# Altium footprint library ATK-2014-09-12.PcbLib: 436 footprints (part 4 of 28)
Each footprint in its own frame and in the unit in brackets; x right, y up, seen from the top. Pads: shape width x height; smd on the part's side, far side on the other; paste and mask are expansions set on the pad; w line width, h text height; cw(c..) or ccw(c..) is an arc to the next point about the centre after c.
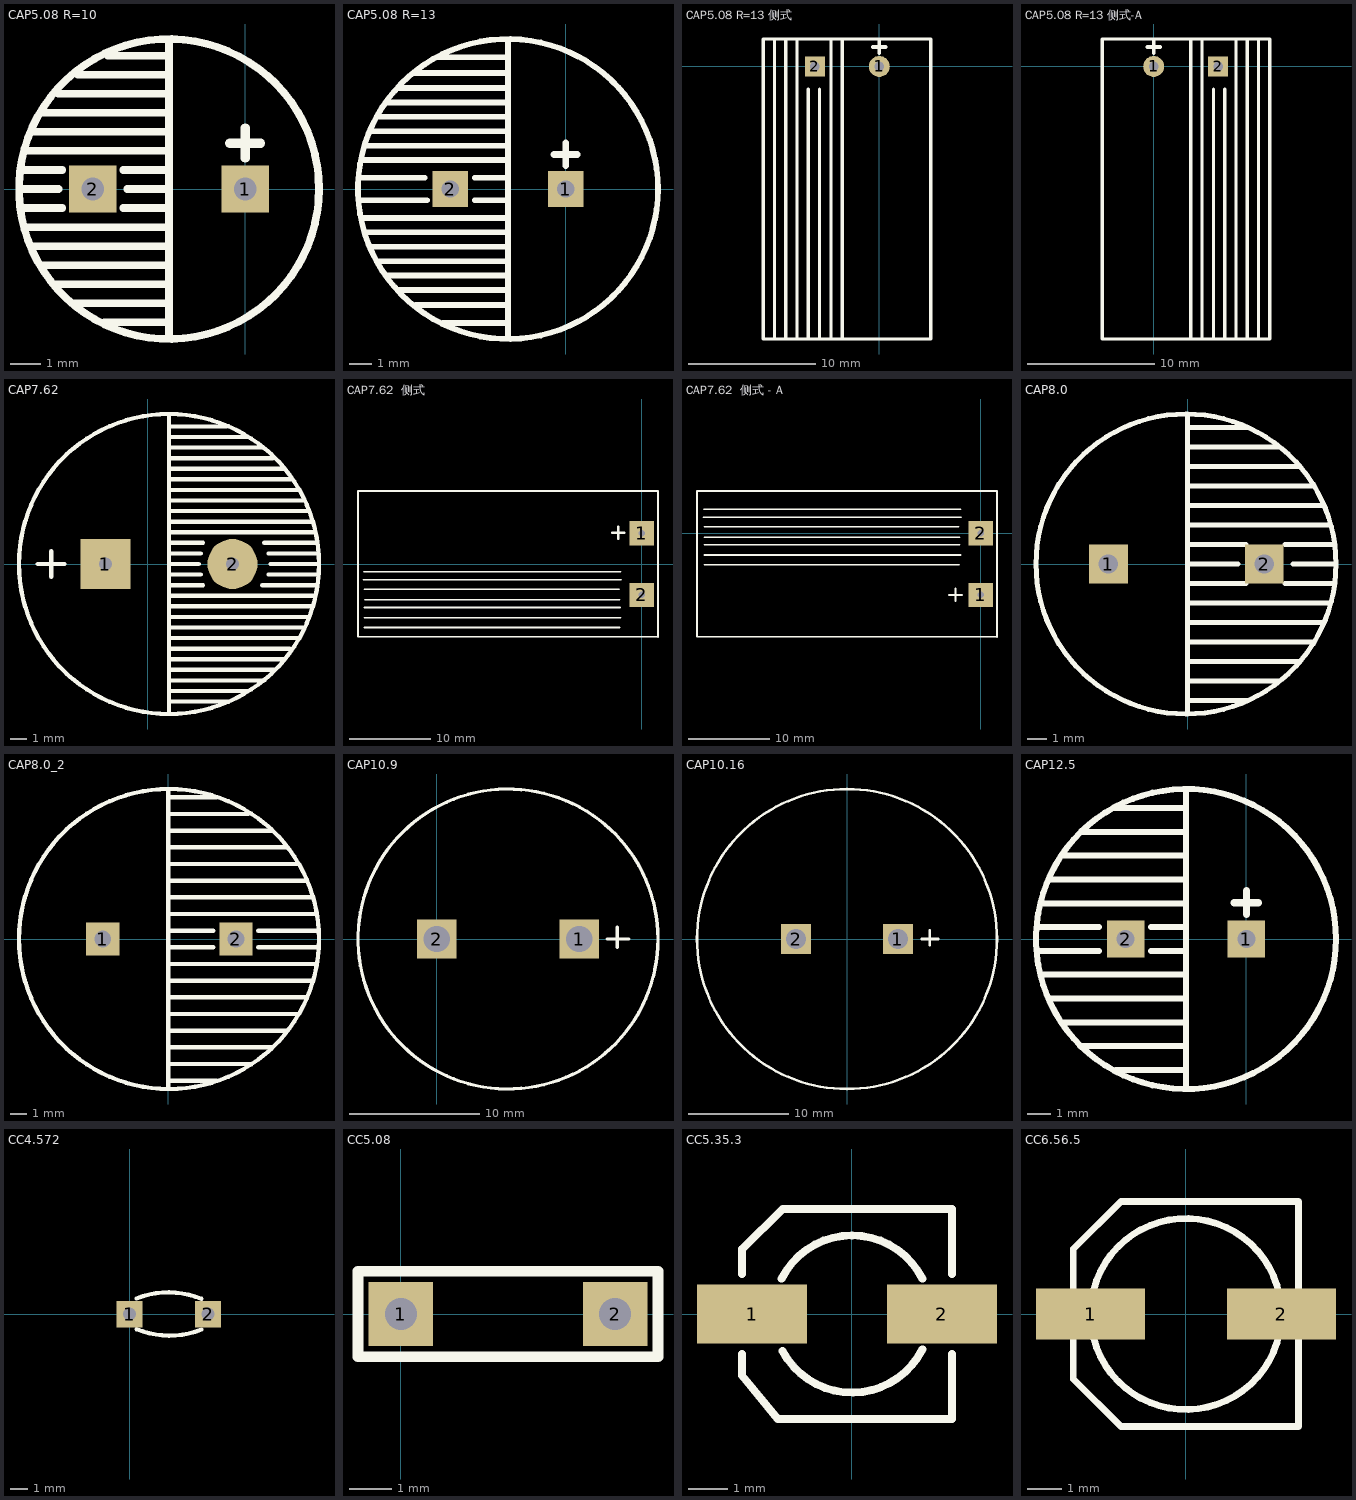
[diagram p3: the footprints below, top view; thin cyan lines are the x and y axes]

## CAP5.08 R=10 [mil] "RB 5.08/10"
height 393.7
pads (2):
  rect 62x62 hole 30: 1(0,0) 2(-200,0)
Top Overlay:
  circle w10: c-100,0 r196.85
  lines w10: -295,-25 -240,-25 ; -295,0 -245,0 ; -295,25 -240,25 ; -290,-50 -100,-50 ; -285,50 -100,50 ; -280,-75 -100,-75 ; -280,75 -100,75 ; -265,-100 -100,-100 ; -265,100 -100,100 ; -250,-125 -100,-125 ; -245,125 -100,125 ; -225,-150 -100,-150 ; -220,150 -100,150 ; -185,-175 -100,-175 ; -180,175 -100,175 ; -160,-25 -100,-25 ; -160,25 -100,25 ; -155,0 -100,0 ; -100,-195 -100,195
  lines w12: -20.32,60 20,60 ; 0,40.63 0,80

## CAP5.08 R=13 [mil] "RB 5.08/13"
height 393.7
pads (2):
  rect 62x62 hole 30: 1(0,0) 2(-200,0)
Top Overlay:
  circle w10: c-100,0 r259.84
  lines w10: -358.27,-19.68 -295.16,-19.68 -240.16,-19.68 ; -358.27,19.68 -244.09,19.68 ; -354.33,50 -100,50 ; -353.15,-50 -290,-50 -100,-50 ; -346.46,-75 -100,-75 ; -346.46,75 -100,75 ; -338.58,100 -100,100 ; -334.65,-100 -100,-100 ; -326.77,-125 -100,-125 ; -326.77,125 -100,125 ; -311.02,-150 -100,-150 ; -311.02,150 -100,150 ; -291.34,-175 -100,-175 ; -287.4,175 -100,175 ; -263.78,200.79 -100,200.79 ; -259.84,-200.79 -100,-200.79 ; -220.47,228.35 -100,228.35 ; -212.6,-232.28 -100,-232.28 ; -157.48,-19.68 -100,-19.68 ; -157.48,19.68 -100,19.68 ; -100,-255.91 -100,255.91
  lines w12: -20.32,60 20,60 ; 0,40.63 0,80

## CAP5.08 R=13 侧式 [mil] "RB 5.08  13x20"
pads (2):
  round 65 hole 30: 1(0,0)
  rect 62x62 hole 30: 2(-200,0)
Top Overlay:
  lines w10: -325,-845 -325,85 ; -290,-845 -290,85 ; -255,-845 -255,85 ; -220,-845 -220,-70 ; -185,-845 -185,-70 ; -150,-845 -150,85 ; -115,-845 -115,85 ; -115,85 159.84,85 159.84,-845 -360,-845 -360,85 -115,85
  lines w12: -20.32,60 20,60 ; 0,40.63 0,80

## CAP5.08 R=13 侧式-A [mil] "RB 5.08  13x20"
pads (2):
  round 65 hole 30: 1(0,0)
  rect 62x62 hole 30: 2(200,0)
Top Overlay:
  lines w10: 115,-845 115,85 ; 150,-845 150,85 ; 185,-845 185,-70 ; 220,-845 220,-70 ; 255,-845 255,85 ; 290,-845 290,85 ; 325,-845 325,85 ; 115,85 360,85 360,-845 -159.84,-845 -159.84,85 115,85
  lines w12: -20,60 20.32,60 ; 0,40.63 0,80

## CAP7.62 [mm] "35V 4700uF"
height 32
pads (2):
  rect 3x3 hole 0.8: 1(-2.54,0)
  round 3 hole 0.8: 2(5.08,0)
Top Overlay:
  circle w0.254: c1.27,0 r9
  lines w0.254: -6.604,0 -5.004,0 ; -5.791,-0.762 -5.791,0.762 ; 1.27,-8.89 1.27,8.992 ; 1.27,-8.255 4.826,-8.255 ; 1.27,-7.62 5.969,-7.62 ; 1.27,-6.985 6.985,-6.985 ; 1.27,-6.35 7.62,-6.35 ; 1.27,-5.715 8.128,-5.715 ; 1.27,-5.08 8.509,-5.08 ; 1.27,-4.445 9.017,-4.445 ; 1.27,-3.81 9.398,-3.81 ; 1.27,-3.175 9.652,-3.175 ; 1.27,-2.54 9.906,-2.54 ; 1.27,-1.905 10.033,-1.905 ; 1.27,-1.27 3.302,-1.27 ; 1.27,-0.635 3.175,-0.635 ; 1.27,0 3.048,0 ; 1.27,0.635 3.175,0.635 ; 1.27,1.27 3.302,1.27 ; 1.27,1.905 10.033,1.905 ; 1.27,2.54 9.906,2.54 ; 1.27,3.175 9.652,3.175 ; 1.27,3.81 9.398,3.81 ; 1.27,4.445 9.017,4.445 ; 1.27,5.08 8.636,5.08 ; 1.27,5.715 8.128,5.715 ; 1.27,6.35 7.493,6.35 ; 1.27,6.985 6.858,6.985 ; 1.27,7.62 5.969,7.62 ; 1.27,8.255 4.699,8.255 ; 6.858,-1.27 10.16,-1.27 ; 6.985,1.27 10.16,1.27 ; 7.239,-0.635 10.16,-0.635 ; 7.239,0.635 10.16,0.635 ; 7.366,0 10.27,0

## CAP7.62  侧式 [mm] "50V 4700uF"
height 15
pads (2):
  rect 3x3 hole 0.8: 1(0,3.81) 2(0,-3.81)
Top Overlay:
  lines w0.2: -35.001,-8.941 -35.001,8.992 ; -35,-8.966 2.007,-8.966 ; -35,9.017 2.007,9.017 ; -34.341,-1.956 -2.515,-1.956 ; -34.265,-0.94 -2.591,-0.94 ; -34.214,-7.823 -2.743,-7.823 ; -34.214,-6.604 -2.565,-6.604 ; -34.214,-5.359 -2.667,-5.359 ; -34.214,-3.099 -2.794,-3.099 ; -34.188,-4.394 -2.692,-4.394
  lines w0.254: -3.683,3.861 -2.108,3.861 ; -2.896,3.124 -2.896,4.648 ; 2,-9 2,9

## CAP7.62  侧式 - A [mm] "50V 4700uF"
height 15
pads (2):
  rect 3x3 hole 0.8: 1(0,-7.62) 2(0,0)
Top Overlay:
  lines w0.2: -35.001,-12.751 -35.001,5.182 ; -35,-12.776 2.007,-12.776 ; -35,5.207 2.007,5.207 ; -34.239,1.956 -2.413,1.956 ; -34.163,2.972 -2.489,2.972 ; -34.112,-3.912 -2.642,-3.912 ; -34.112,-2.692 -2.464,-2.692 ; -34.112,-1.448 -2.565,-1.448 ; -34.112,0.813 -2.692,0.813 ; -34.087,-0.483 -2.591,-0.483
  lines w0.254: -3.886,-7.645 -2.311,-7.645 ; -3.099,-8.382 -3.099,-6.858 ; 2,-12.81 2,5.19

## CAP8.0 [mm] "25V/4700uF"
height 27
pads (2):
  rect 2x2 hole 1: 1(-4.064,0) 2(3.937,0)
Top Overlay:
  circle w0.254: c-0.08,0 r7.7
  lines w0.254: 0,-7.7 0,7.7 ; 0,-7 3.1,-7 ; 0,-6 4.7,-6 ; 0,-5 5.7,-5 ; 0,-4 6.5,-4 ; 0,-3 6.9,-3 ; 0,-2 7.3,-2 ; 0,-1 3,-1 ; 0,0 2.6,0 ; 0,1 3,1 ; 0,2 7.2,2 ; 0,3 6.9,3 ; 0,4 6.5,4 ; 0,5 5.7,5 ; 0,6 4.7,6 ; 0,7 3.1,7 ; 5,-1 7.5,-1 ; 5,1 7.5,1 ; 5.4,0 7.62,0

## CAP8.0_2 [mm] "50V/4700uF"
height 30
pads (2):
  rect 2x2 hole 1: 1(-3.937,0) 2(4.064,0)
Top Overlay:
  circle w0.254: c0.047,0 r9
  lines w0.254: 0,-8.818 0,8.9 ; 0,-8.5 2.9,-8.5 ; 0,-6.5 6.2,-6.5 ; 0,-5.5 7.1,-5.5 ; 0,-4.5 7.8,-4.5 ; 0,-3.5 8.3,-3.5 ; 0,-2.5 8.6,-2.5 ; 0,-1.5 8.9,-1.5 ; 0,-0.5 2.7,-0.5 ; 0,0.5 2.7,0.5 ; 0,1.5 8.9,1.5 ; 0,2.5 8.6,2.5 ; 0,3.5 8.2,3.5 ; 0,4.5 7.7,4.5 ; 0,5.5 7.1,5.5 ; 0,6.5 6.2,6.5 ; 0,7.5 4.8,7.5 ; 0,8.5 2.9,8.5 ; 0.1,-7.5 5,-7.5 ; 5.4,-0.5 9,-0.5 ; 5.4,0.5 9,0.5

## CAP10.9 [mm] "50V 2200uF"
height 26
pads (2):
  rect 3x3 hole 2: 1(10.922,0) 2(0,0)
Top Overlay:
  circle w0.254: c5.461,0 r11.5
  lines w0.254: 13.081,0 14.732,0 ; 13.843,-0.635 13.843,0.889

## CAP10.16 [mm] "50V10000uF"
height 50
pads (2):
  rect 3x3 hole 2: 1(5.08,0) 2(-5.08,0)
Top Overlay:
  circle w0.254: c0,0 r15
  lines w0.254: 7.493,0 9.144,0 ; 8.255,-0.635 8.255,0.889

## CAP12.5 [mil] "12.5mm*20mm,pin:5.08mm"
height 787.4
pads (2):
  rect 62x62 hole 30: 1(0,0) 2(-200,0)
Top Overlay:
  circle w10: c-100,0 r248.03
  lines w10: -346.46,-19.68 -244.09,-19.68 ; -346.46,19.68 -244.09,19.68 ; -338.58,-59.06 -100,-59.06 ; -334.65,59.06 -100,59.06 ; -326.77,98.43 -100,98.43 ; -322.83,-98.43 -100,-98.43 ; -303.15,-137.8 -100,-137.8 ; -303.15,137.8 -100,137.8 ; -275.59,-177.17 -100,-177.17 ; -271.65,177.17 -100,177.17 ; -220.47,216.54 -100,216.54 ; -216.54,-216.54 -100,-216.54 ; -157.48,-19.68 -100,-19.68 ; -157.48,19.68 -100,19.68 ; -100,-248.03 -100,244.09
  lines w12: -20.32,60 20,60 ; 0,40.63 0,80

## CC4.572 [mil] "222/332"
height 393.7
pads (2):
  rect 60x60 hole 30: 1(0,0) 2(180,0)
Top Overlay:
  lines w10: 15.81,-34.13 ccw(c91.47,147.6) 165,-35 ; 15.81,35.87 cw(c89.34,-146.73) 165,35

## CC5.08 [mil] "CAP0.1"
height 314.96
pads (2):
  rect 60x60 hole 30: 1(0,0) 2(200,0)
Top Overlay:
  lines w10: -15,40 240,40 240,-40 -40,-40 -40,40 -5,40

## CC5.35.3 [mm]
pads (2):
  rect 2.8x1.5 smd: 1(-2.54,0) 2(2.286,0)
Top Overlay:
  lines w0.2: -2.794,-1.016 -2.794,-1.561 -1.887,-2.667 2.413,-2.667 2.54,-2.667 2.54,-1.016 ; -2.794,1.016 -2.794,1.651 -1.76,2.667 2.54,2.667 2.54,1.016 ; -1.789,0.894 cw(c0,0) 1.789,0.894 ; -1.765,-0.941 ccw(c0,0) 1.789,-0.894

## CC6.56.5 [mm] "SMD;W:6.5mm;L:6.5mm;"
height 5.5
pads (2):
  rect 3.2x1.5 smd: 1(-2.794,0) 2(2.8,0)
Top Overlay:
  circle w0.2: c0,0 r2.8
  lines w0.2: -3.302,-1.905 -1.905,-3.302 3.302,-3.302 3.302,3.302 -1.905,3.302 -3.302,1.905 -3.302,-1.905